# EAGLE library part 6620XX21022_66201221022 (library Wurth_Connectors_WR-MPC3)
WR-MPC3 3.00 mm Male Dual Row Angled Header w. Plastic Pegs KIND PROPERTIES Pitch 3 mm Gender Male MATERIAL PROPERTIES Insulator Material LCP Insulator Flammability Rating UL94 V-0 Insulator Color Black Contact Material Copper Alloy Contact Plating： Tin Contact Type Stamped GENERAL INFORMATION Operating Temperature -40 up to +105 °C Working Voltage 250 V (AC) Withstanding Voltage 1500 V (AC) Contact Resistance 10 mΩ RISO 1000 MΩ CERTIFICATION UL Approval E323964 WIRE PROPERTIES Packaging ：Tube <https://katalog.we-online.com/media/images/v2/o33169v209%20Family_WR-MPC3_6620xx21022.jpg> Details see: https://katalog.we-online.com/en/em/MPC3_3_00_MALE_DUAL_ROW_ANGLED_HEADER_W_PLASTIC_PEGS_6620XX21022 Created by Yingchun,Shan 2019-11-13 2019 (C) Würth Elektronik
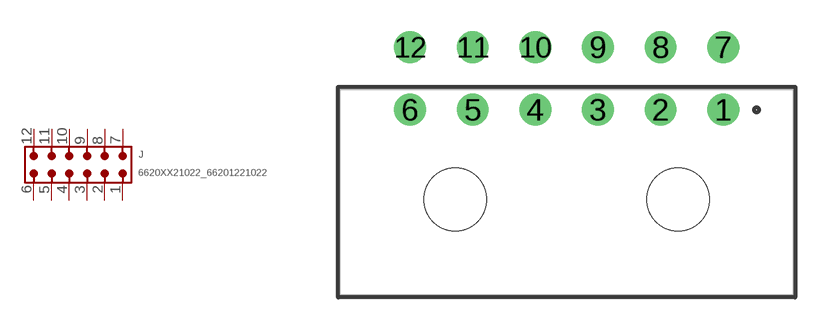
[diagram p46: symbol with the pads of 66201221022; footprint 66201221022]

Designator prefix J

## 6620XX21022_66201221022 (CONTACT-RESISTANCE: 10Ohm; DATASHEET-URL: https://www.we-online.com/redexpert/spec/66201221022?ae; GENDER: Male; IR: 5A; MOUNT: THT; PART-NUMBER: 66201221022; PINS: 12; PITCH: 3mm; ROWS: Dual; TOL-R: max.; TYPE: Right Angled; VALUE: 66201221022; WORKING-VOLTAGE: 250V(AC))  [66201221022]
1  1  pas
2  2  pas
3  3  pas
4  4  pas
5  5  pas
6  6  pas
7  7  pas
8  8  pas
9  9  pas
10  10  pas
11  11  pas
12  12  pas

## Footprint 66201221022 (pad centres in mm)
WR-MPC3 3.00 mm Male Dual Row Angled Header w. Plastic Pegs,12 Pins
drill 1.02: 1 7.5,3.95; 2 4.5,3.95; 3 1.5,3.95; 4 -1.5,3.95; 5 -4.5,3.95; 6 -7.5,3.95; 7 7.5,6.95; 8 4.5,6.95; 9 1.5,6.95; 10 -1.5,6.95; 11 -4.5,6.95; 12 -7.5,6.95
hole 3 at 5.34,-0.35
hole 3 at -5.34,-0.35